# Altium footprint library TO254P1435X464-3N.PcbLib: 1 footprints
Each footprint in its own frame and in the unit in brackets; x right, y up, seen from the top. Pads: shape width x height; smd on the part's side, far side on the other; paste and mask are expansions set on the pad; w line width, h text height; cw(c..) or ccw(c..) is an arc to the next point about the centre after c.
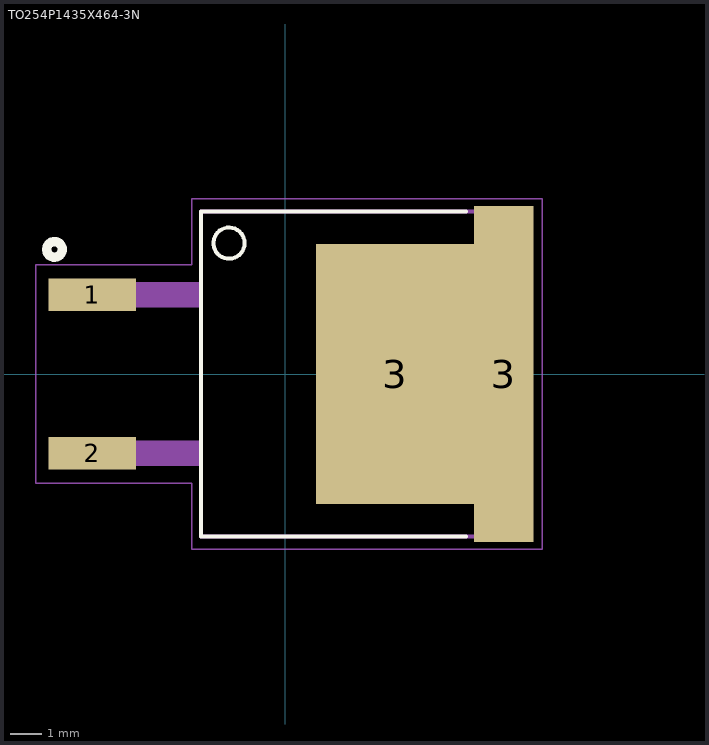
[diagram p0: the footprint, top view; thin cyan lines are the x and y axes]

## TO254P1435X464-3N [mm]
pads (4):
  rect 2.8x1.05 smd: 1(-6.19,2.54) 2(-6.19,-2.54)
  rect 5.08x8.33 smd: 3(3.53,0)
  rect 1.91x10.8 smd: 3(7.025,0)
Top Overlay:
  circle w0.3: c-7.4,4 r0.25
  circle w0.127: c-1.8,4.2 r0.5
  lines w0.127: 5.8,-5.21 -2.705,-5.21 -2.705,5.21 5.8,5.21
Mechanical 1:
  region: -7.168,2.94 -2.705,2.94 -2.705,2.147 -7.168,2.147
  region: -7.173,-2.14 -2.705,-2.14 -2.705,-2.951 -7.173,-2.951
  lines w0.05: -8,-3.5 -3,-3.5 -3,-5.625 8.25,-5.625 8.25,5.625 -3,5.625 -3,3.5 -8,3.5 -8,-3.5
  lines w0.127: -2.705,-5.21 -2.705,5.21 7.205,5.21 7.205,-5.21 -2.705,-5.21
3D body "SM74611KTTR.STEP": height 4.55, standoff -0.24, extent -7.318,-5.08 7.775,5.08